# EAGLE library part JTAG_ARM-10-* (library psas_c3_team05)
JTAG PIN HEADER 2x5 This is one of the (smaller) ARM standard JTAG connectors.
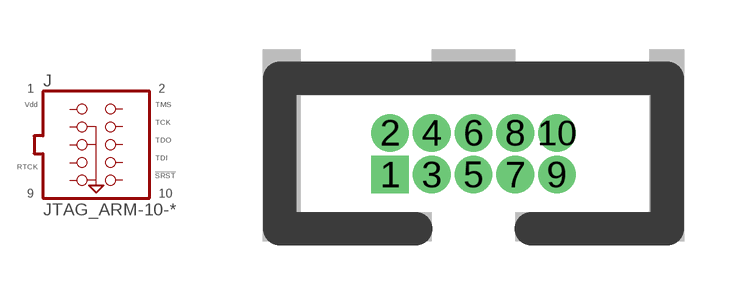
[diagram p1: symbol with the pads of PINHEADER-2X5-0.05+POL+SILK; footprint PINHEADER-2X5-0.05+POL+SILK]

Designator prefix J

## JTAG_ARM-10-50MIL  [PINHEADER-2X5-0.05+POL+SILK]
1  VDD  pas
2  TMS  pas
3  GND3  pas
4  TCK  pas
5  GND5  pas
6  TDO  pas
7  RTCK  pas
8  TDI  pas
9  GND9  pas
10  SRST  pas

## Footprint PINHEADER-2X5-0.05+POL+SILK (pad centres in mm)
PIN HEADER 2x5, 0.05" pitch (1.27 mm) Includes polarized silkscreen outline This connector is one of the (smaller) ARM standard JTAG connectors. Parts include Samtech SHF-105-01-L-D-TH and similar and Don Connex P/N: C42.
drill 0.635 pad 1.04 square: 1 -2.54,-0.635
drill 0.635 pad 1.04: 2 -2.54,0.635; 3 -1.27,-0.635; 4 -1.27,0.635; 5 0,-0.635; 6 0,0.635; 7 1.27,-0.635; 8 1.27,0.635; 9 2.54,-0.635; 10 2.54,0.635